# EAGLE library part ISO508 (library digital)
ISO508: Octal digital coupler (Burr-Brown) Uni-directional, isolated
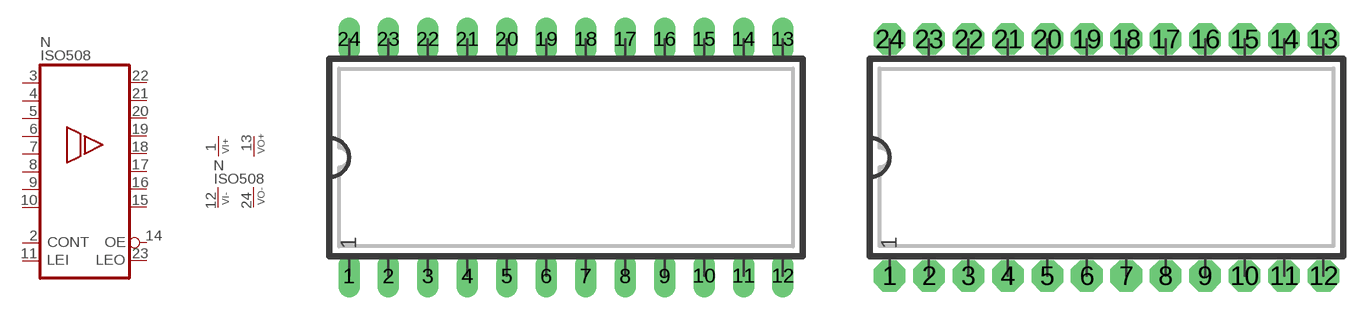
[diagram p33: symbol with the pads of DIP24WL; footprints DIP24WL, DIP24WN]

Designator prefix N; gates  =ISO508 P=V2+2-B

## ISO508  [DIP24WL]
1  P:VI+  pwr
2   :CONT  in
3   :I0  in
4   :I1  in
5   :I2  in
6   :I3  in
7   :I4  in
8   :I5  in
9   :I6  in
10   :I7  in
11   :LEI  in
12  P:VI-  pwr
13  P:VO+  pwr
14   :OE  in
15   :O7  out
16   :O6  out
17   :O5  out
18   :O4  out
19   :O3  out
20   :O2  out
21   :O1  out
22   :O0  out
23   :LEO  in
24  P:VO-  pwr

## ISO508L  [DIP24WL]
Pads as for DIP24WL

## ISO508N  [DIP24WN]
Pads as for DIP24WL

## ISO508R  [DIP24WR]
Pads as for DIP24WL

## Footprint DIP24WL (pad centres in mm)
Wide DIP-24, long pads Standard IC package, 24 pins
drill 0.813 pad 1.397 long: 1 0,0; 2 2.54,0; 3 5.08,0; 4 7.62,0; 5 10.16,0; 6 12.7,0; 7 15.24,0; 8 17.78,0; 9 20.32,0; 10 22.86,0; 11 25.4,0; 12 27.94,0; 13 27.94,15.24; 14 25.4,15.24; 15 22.86,15.24; 16 20.32,15.24; 17 17.78,15.24; 18 15.24,15.24; 19 12.7,15.24; 20 10.16,15.24; 21 7.62,15.24; 22 5.08,15.24; 23 2.54,15.24; 24 0,15.24

## Footprint DIP24WN (pad centres in mm)
Wide DIP-24 Standard IC package, 24 pins
drill 0.813 pad 2.032 octagon: 1 0,0; 2 2.54,0; 3 5.08,0; 4 7.62,0; 5 10.16,0; 6 12.7,0; 7 15.24,0; 8 17.78,0; 9 20.32,0; 10 22.86,0; 11 25.4,0; 12 27.94,0; 13 27.94,15.24; 14 25.4,15.24; 15 22.86,15.24; 16 20.32,15.24; 17 17.78,15.24; 18 15.24,15.24; 19 12.7,15.24; 20 10.16,15.24; 21 7.62,15.24; 22 5.08,15.24; 23 2.54,15.24; 24 0,15.24

## Footprint DIP24WR (pad centres in mm)
Wide DIP-24, reduced pads Standard IC package, 24 pins
drill 0.813 pad 1.397 square: 1 0,0; 2 2.54,0; 3 5.08,0; 4 7.62,0; 5 10.16,0; 6 12.7,0; 7 15.24,0; 8 17.78,0; 9 20.32,0; 10 22.86,0; 11 25.4,0; 12 27.94,0; 13 27.94,15.24; 14 25.4,15.24; 15 22.86,15.24; 16 20.32,15.24; 17 17.78,15.24; 18 15.24,15.24; 19 12.7,15.24; 20 10.16,15.24; 21 7.62,15.24; 22 5.08,15.24; 23 2.54,15.24; 24 0,15.24